# EAGLE library part TPS2549 (library comma.ai)
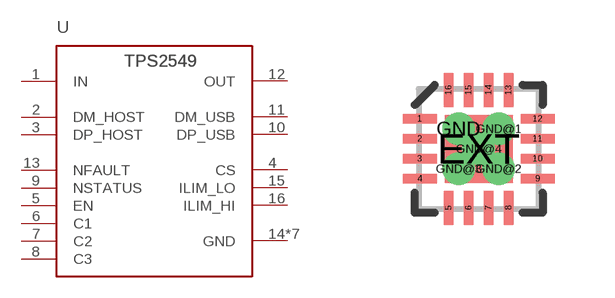
[diagram p31: symbol with the pads of QFN16-3X3MM; footprint QFN16-3X3MM]

Designator prefix U

## TPS2549Q  [QFN16-3X3MM]
1  IN
2  DM_HOST
3  DP_HOST
4  CS
5  EN
6  C1
7  C2
8  C3
9  NSTATUS
10  DP_USB
11  DM_USB
12  OUT
13  NFAULT
14  GND
15  ILIM_LO
16  ILIM_HI
EXT  GND
GND  GND
GND@1  GND
GND@2  GND
GND@3  GND
GND@4  GND

## Footprint QFN16-3X3MM (pad centres in mm)
3mm x 3mm QFN 16 pin
smd 0.85 x 0.23: 1 -1.475,0.75; 2 -1.475,0.25; 3 -1.475,-0.25; 4 -1.475,-0.75; 9 1.475,-0.75; 10 1.475,-0.25; 11 1.475,0.25; 12 1.475,0.75
smd 0.23 x 0.85: 5 -0.75,-1.475; 6 -0.25,-1.475; 7 0.25,-1.475; 8 0.75,-1.475; 13 0.75,1.475; 14 0.25,1.475; 15 -0.25,1.475; 16 -0.75,1.475
smd 1.7 x 1.7: EXT 0,0
drill 0.3 pad 0.61: GND -0.5,0.5; GND@1 0.5,0.5; GND@2 0.5,-0.5; GND@3 -0.5,-0.5; GND@4 0,0